# EAGLE library part TEENSY4.1-BARE (library joakim)
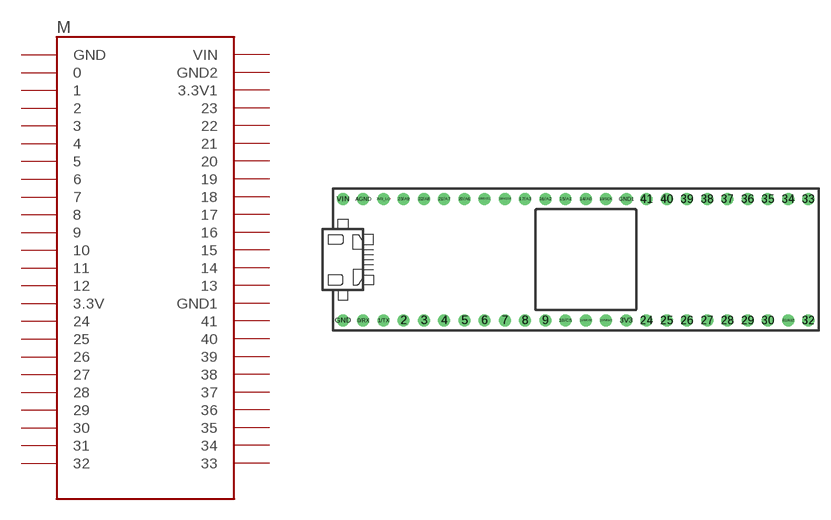
[diagram p59: symbol with the pads of TEENSY4.1-BARE; footprint TEENSY4.1-BARE]

Designator prefix M

## TEENSY4.1-BARE  [TEENSY4.1-BARE]
0/RX  0
1/TX  1
2  2
3  3
3V3  3.3V
3V3_LO  3.3V1
4  4
5  5
6  6
7  7
8  8
9  9
10/CS  10
11/MOSI  11
12/MISO  12
13/SCK  13
14/A0  14
15/A1  15
16/A2  16
17/A3  17
18/A4/SDA  18
19/A5/SCL  19
20/A6  20
21/A7  21
22/A8  22
23/A9  23
24  24
25  25
26  26
27  27
28  28
29  29
30  30
31/A12  31
32  32
33  33
34  34
35  35
36  36
37  37
38  38
39  39
40  40
41  41
AGND  GND2
GND  GND
GND1  GND1
VIN  VIN

## Footprint TEENSY4.1-BARE (pad centres in mm)
drill 1: 0/RX -26.67,-7.62; 1/TX -24.13,-7.62; 2 -21.59,-7.62; 3 -19.05,-7.62; 3V3 6.35,-7.62; 3V3_LO -24.13,7.62; 4 -16.51,-7.62; 5 -13.97,-7.62; 6 -11.43,-7.62; 7 -8.89,-7.62; 8 -6.35,-7.62; 9 -3.81,-7.62; 10/CS -1.27,-7.62; 11/MOSI 1.27,-7.62; 12/MISO 3.81,-7.62; 13/SCK 3.81,7.62; 14/A0 1.27,7.62; 15/A1 -1.27,7.62; 16/A2 -3.81,7.62; 17/A3 -6.35,7.62; 18/A4/SDA -8.89,7.62; 19/A5/SCL -11.43,7.62; 20/A6 -13.97,7.62; 21/A7 -16.51,7.62; 22/A8 -19.05,7.62; 23/A9 -21.59,7.62; 24 8.89,-7.62; 25 11.43,-7.62; 26 13.97,-7.62; 27 16.51,-7.62; 28 19.05,-7.62; 29 21.59,-7.62; 30 24.13,-7.62; 31/A12 26.67,-7.62; 32 29.21,-7.62; 33 29.21,7.62; 34 26.67,7.62; 35 24.13,7.62; 36 21.59,7.62; 37 19.05,7.62; 38 16.51,7.62; 39 13.97,7.62; 40 11.43,7.62; 41 8.89,7.62; AGND -26.67,7.62; GND -29.21,-7.62; GND1 6.35,7.62; VIN -29.21,7.62